# Altium schematic symbol library SQ2325ES.Schlib: 1 symbol
Pins are listed as number, name and electrical type; pins without a type are passive.

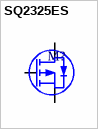
[diagram p0: symbol SQ2325ES]

## SQ2325ES
designator M?
150V 0.84A P-Channel
pins: 1 G, 2 S, 3 D